# EAGLE library part MCP23017-E/SP (library IO-Expanders)
MCP23017 16 pin IO Expander using I2C bus
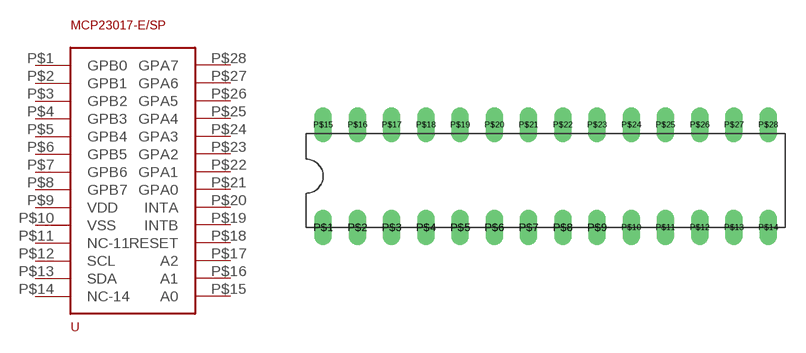
[diagram p0: symbol with the pads of DIP28; footprint DIP28]

Designator prefix -

## MCP23017-E/SP (MCP23017-ESP: DIP)  [DIP28]
P$1  GPB0
P$2  GPB1
P$3  GPB2
P$4  GPB3
P$5  GPB4
P$6  GPB5
P$7  GPB6
P$8  GPB7
P$9  VDD
P$10  VSS
P$11  NC-11
P$12  SCL
P$13  SDA
P$14  NC-14
P$15  A0
P$16  A1
P$17  A2
P$18  RESET
P$19  INTB
P$20  INTA
P$21  GPA0
P$22  GPA1
P$23  GPA2
P$24  GPA3
P$25  GPA4
P$26  GPA5
P$27  GPA6
P$28  GPA7

## Footprint DIP28 (pad centres in mm)
Through hole verson of MCP23017-E/SP IO Expander
drill 0.8 long: P$1 0,0; P$2 2.54,0; P$3 5.08,0; P$4 7.62,0; P$5 10.16,0; P$6 12.7,0; P$7 15.24,0; P$8 17.78,0; P$9 20.32,0; P$10 22.86,0; P$11 25.4,0; P$12 27.94,0; P$13 30.48,0; P$14 33.02,0; P$15 0,7.62; P$16 2.54,7.62; P$17 5.08,7.62; P$18 7.62,7.62; P$19 10.16,7.62; P$20 12.7,7.62; P$21 15.24,7.62; P$22 17.78,7.62; P$23 20.32,7.62; P$24 22.86,7.62; P$25 25.4,7.62; P$26 27.94,7.62; P$27 30.48,7.62; P$28 33.02,7.62